# EAGLE library part STECKER_BOSCH_45-PIN (library k-data Mechanik)
Bosch Stecker 45 pol. für VAG (ABF)
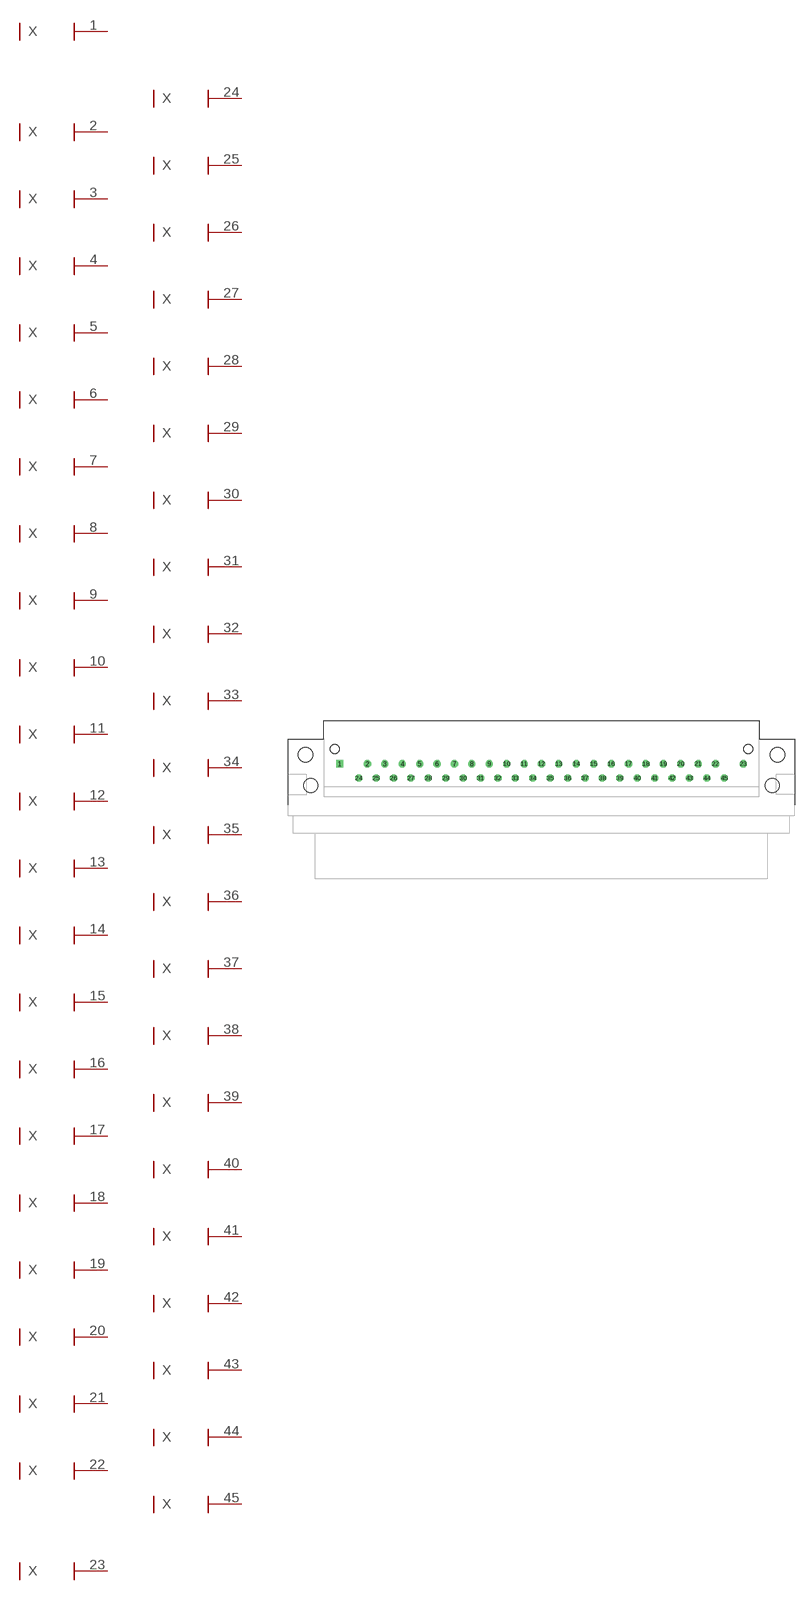
[diagram p9: symbol with the pads of STECKER_BOSCH_45-PIN; footprint STECKER_BOSCH_45-PIN]

Designator prefix X; gates 1=CONNECTOR 2=CONNECTOR 3=CONNECTOR 4=CONNECTOR 5=CONNECTOR 6=CONNECTOR 7=CONNECTOR 8=CONNECTOR 9=CONNECTOR 10=CONNECTOR 11=CONNECTOR 12=CONNECTOR 13=CONNECTOR 14=CONNECTOR 15=CONNECTOR 16=CONNECTOR 17=CONNECTOR 18=CONNECTOR 19=CONNECTOR 20=CONNECTOR 21=CONNECTOR 22=CONNECTOR 23=CONNECTOR 24=CONNECTOR 25=CONNECTOR 26=CONNECTOR 27=CONNECTOR 28=CONNECTOR 29=CONNECTOR 30=CONNECTOR 31=CONNECTOR 32=CONNECTOR 33=CONNECTOR 34=CONNECTOR 35=CONNECTOR 36=CONNECTOR 37=CONNECTOR 38=CONNECTOR 39=CONNECTOR 40=CONNECTOR 41=CONNECTOR 42=CONNECTOR 43=CONNECTOR 44=CONNECTOR 45=CONNECTOR

## STECKER_BOSCH_45-PIN  [STECKER_BOSCH_45-PIN]
1  1:1
2  2:1
3  3:1
4  4:1
5  5:1
6  6:1
7  7:1
8  8:1
9  9:1
10  10:1
11  11:1
12  12:1
13  13:1
14  14:1
15  15:1
16  16:1
17  17:1
18  18:1
19  19:1
20  20:1
21  21:1
22  22:1
23  23:1
24  24:1
25  25:1
26  26:1
27  27:1
28  28:1
29  29:1
30  30:1
31  31:1
32  32:1
33  33:1
34  34:1
35  35:1
36  36:1
37  37:1
38  38:1
39  39:1
40  40:1
41  41:1
42  42:1
43  43:1
44  44:1
45  45:1

## Footprint STECKER_BOSCH_45-PIN (pad centres in mm)
Bosch Stecker 45 pol. (ABF)
drill 1.1 pad 1.6 square: 1 -46.4,10
drill 1.1 pad 1.6 octagon: 2 -40,10; 3 -36,10; 4 -32,10; 5 -28,10; 6 -24,10; 7 -20,10; 8 -16,10; 9 -12,10; 10 -8,10; 11 -4,10; 12 0,10; 13 4,10; 14 8,10; 15 12,10; 16 16,10; 17 20,10; 18 24,10; 19 28,10; 20 32,10; 21 36,10; 22 40,10; 23 46.4,10; 24 -42,6.7; 25 -38,6.7; 26 -34,6.7; 27 -30,6.7; 28 -26,6.7; 29 -22,6.7; 30 -18,6.7; 31 -14,6.7; 32 -10,6.7; 33 -6,6.7; 34 -2,6.7; 35 2,6.7; 36 6,6.7; 37 10,6.7; 38 14,6.7; 39 18,6.7; 40 22,6.7; 41 26,6.7; 42 30,6.7; 43 34,6.7; 44 38,6.7; 45 42,6.7
hole 3.3 at -54.2,12.1
hole 3.3 at 54.2,12.1
hole 3.2 at -53,5
hole 3.2 at 53,5
hole 2.1 at 47.5,13.4
hole 2.1 at -47.5,13.4